# Altium footprint library Mechanics.PcbLib: 1 footprints
Each footprint in its own frame and in the unit in brackets; x right, y up, seen from the top. Pads: shape width x height; smd on the part's side, far side on the other; paste and mask are expansions set on the pad; w line width, h text height; cw(c..) or ccw(c..) is an arc to the next point about the centre after c.
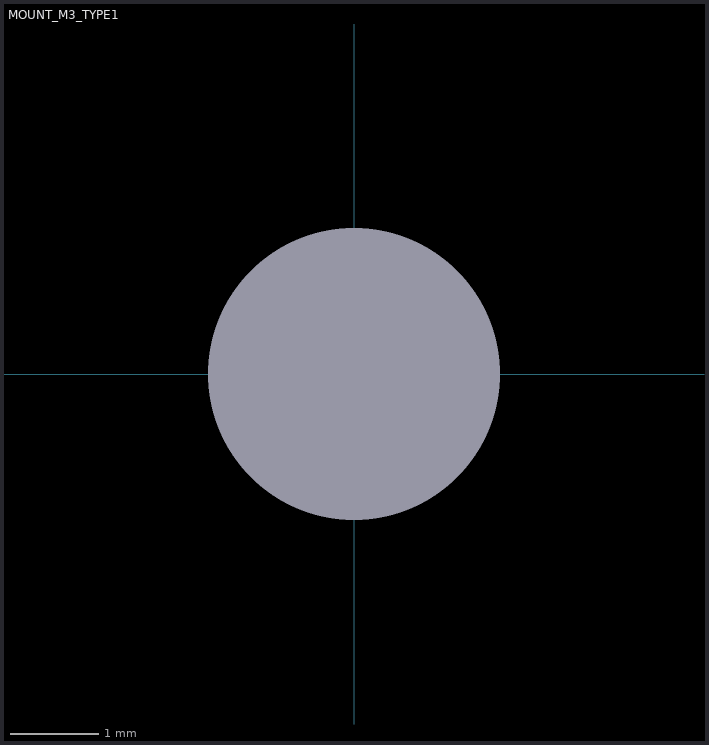
[diagram p0: the footprint, top view; thin cyan lines are the x and y axes]

## MOUNT_M3_TYPE1 [mm]
pads (1):
  round 0 hole 3.3 mask+4: 0(0,0)
Multi-Layer:
  pour cut-out: 0,-3.6 -0.236,-3.6 -0.704,-3.538 -1.16,-3.416 -1.596,-3.236 -2.004,-3 -2.379,-2.712 -2.712,-2.379 -3,-2.004 -3.236,-1.596 -3.416,-1.16 -3.538,-0.704 -3.6,-0.236 -3.6,0 -3.6,0.236 -3.538,0.704 -3.416,1.16 -3.236,1.596 -3,2.004 -2.712,2.379 -2.379,2.712 -2.004,3 -1.596,3.236 -1.16,3.416 -0.704,3.538 -0.236,3.6 0,3.6 0.236,3.6 0.704,3.538 1.16,3.416 1.596,3.236 2.004,3 2.379,2.712 2.712,2.379 3,2.004 3.236,1.596 3.416,1.16 3.538,0.704 3.6,0.236 3.6,0 3.6,-0.236 3.538,-0.704 3.416,-1.16 3.236,-1.596 3,-2.004 2.712,-2.379 2.379,-2.712 2.004,-3 1.596,-3.236 1.16,-3.416 0.704,-3.538 0.236,-3.6